# EAGLE library part AD8494 (library EspressoParts)
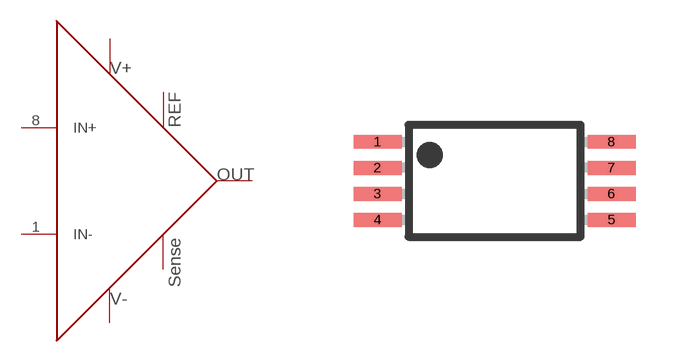
[diagram p0: symbol with the pads of TSSOP8; footprint TSSOP8]

Designator prefix -

## AD8494  [TSSOP8]
1  IN-
2  REF
3  V-
5  SENSE
6  OUT
7  V+
8  IN+

## Footprint TSSOP8 (pad centres in mm)
Plastic Small Outline
smd 1.2 x 0.35: 1 -2.925,0.975; 2 -2.925,0.325; 3 -2.925,-0.325; 4 -2.925,-0.975; 5 2.925,-0.975; 6 2.925,-0.325; 7 2.925,0.325; 8 2.925,0.975